# Altium schematic symbol library Comparator.SchLib: 55 symbols
Pins are listed as number, name and electrical type; pins without a type are passive.

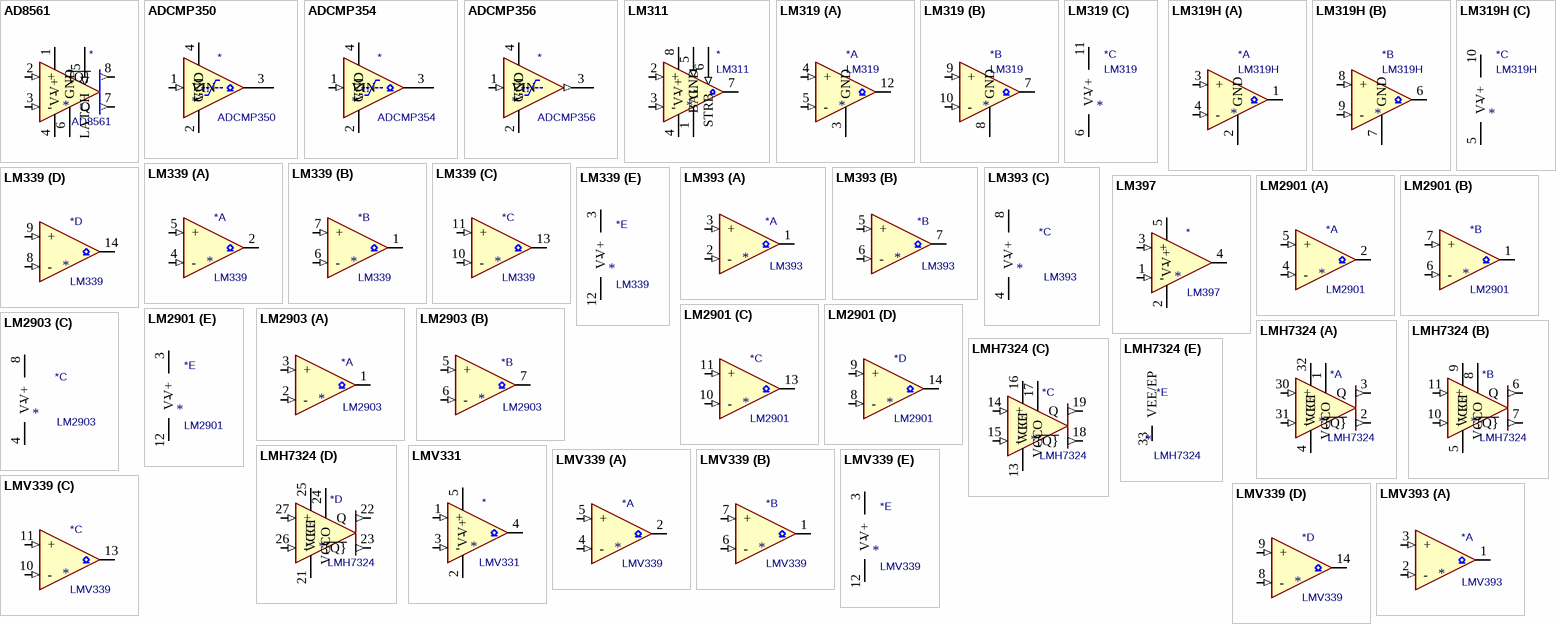
[diagram p0: symbols AD8561 to LMV393]

## AD8561
designator *  value AD8561
ki_keywords: cmp complementary push-pull; ki_description: Ultrafast 7 ns Single Supply Comparator, DIP-8/SOIC-8/TSSOP-8; ki_fp_filters: SOIC*3.9x4.9mm*P1.27mm* TSSOP*4.4x3mm*P0.65mm* DIP*W7.62mm*; Supplier: https://www.analog.com/media/en/technical-documentation/data-sheets/ad8561.pdf
pins: 1 V+ (power), 2 + (in), 3 - (in), 4 V- (power), 5 LATCH (in), 6 GND (power), 7 Q (out), 8 ~{{Q}} (out)

## ADCMP350
designator *  value ADCMP350
ki_keywords: cmp collector; ki_description: Single-input comparator, internal 0.6V reference, Active-Low Open-Drain output, KS-4; ki_fp_filters: Analog*KS?4*; Footprint: Package_TO_SOT_SMD:Analog_KS-4; Supplier: https://www.analog.com/media/en/technical-documentation/data-sheets/ADCMP350_354_356.pdf
footprint Analog_KS-4
pins: 1 VIN (in), 2 GND (power), 3 (oc), 4 VCC (power)

## ADCMP354
designator *  value ADCMP354
ki_keywords: cmp collector; ki_description: Single-input comparator, internal 0.6V reference, Active-High Open-Drain output, KS-4; ki_fp_filters: Analog*KS?4*; Footprint: Package_TO_SOT_SMD:Analog_KS-4; Supplier: https://www.analog.com/media/en/technical-documentation/data-sheets/ADCMP350_354_356.pdf
footprint Analog_KS-4
pins: 1 VIN (in), 2 GND (power), 3 (oc), 4 VCC (power)

## ADCMP356
designator *  value ADCMP356
ki_keywords: cmp; ki_description: Single-input comparator, internal 0.6V reference, Active-High Push-Pull output, KS-4; ki_fp_filters: Analog*KS?4*; Footprint: Package_TO_SOT_SMD:Analog_KS-4; Supplier: https://www.analog.com/media/en/technical-documentation/data-sheets/ADCMP350_354_356.pdf
footprint Analog_KS-4
pins: 1 VIN (in), 2 GND (power), 3 (out), 4 VCC (power)

## LM311
designator *  value LM311
ki_keywords: cmp open collector; ki_description: Voltage Comparator, DIP-8/SOIC-8; ki_fp_filters: SOIC*3.9x4.9mm*P1.27mm* DIP*W7.62mm*; Supplier: https://www.st.com/resource/en/datasheet/lm311.pdf
pins: 1 GND, 2 + (in), 3 - (in), 4 V- (power), 5 BAL (in), 6 STRB (in), 7 (oc), 8 V+ (power)

## LM319
designator *  value LM319
ki_keywords: cmp open collector; ki_description: High Speed Dual Comparator, DIP-14/SOIC-14; ki_fp_filters: SOIC*3.9x8.7mm*P1.27mm* DIP*W7.62mm*; Supplier: http://www.ti.com/lit/ds/symlink/lm319-n.pdf
part A pins: 1 NC (in) hidden, 2 NC (in) hidden, 3 GND, 4 + (in), 5 - (in), 12 (oc)
part B pins: 7 (oc), 8 GND, 9 + (in), 10 - (in), 13 NC (in) hidden, 14 NC (in) hidden
part C pins: 6 V- (power), 11 V+ (power)

## LM319H
designator *  value LM319H
ki_keywords: cmp open collector; ki_description: High Speed Dual Comparator, TO-100-10; ki_fp_filters: TO?100*; Footprint: Package_TO_SOT_THT:TO-100-10; Supplier: http://www.ti.com/lit/ds/symlink/lm319-n.pdf
footprint TO-100-10
part A pins: 1 (oc), 2 GND, 3 + (in), 4 - (in)
part B pins: 6 (oc), 7 GND, 8 + (in), 9 - (in)
part C pins: 5 V- (power), 10 V+ (power)

## LM339
designator *  value LM339
ki_keywords: cmp open collector; ki_description: Quad Differential Comparators, SOIC-14/TSSOP-14; ki_fp_filters: SOIC*3.9x8.7mm*P1.27mm* TSSOP*4.4x5mm*P0.65mm*; Supplier: https://www.st.com/resource/en/datasheet/lm139.pdf
part A pins: 2 (oc), 4 - (in), 5 + (in)
part B pins: 1 (oc), 6 - (in), 7 + (in)
part C pins: 10 - (in), 11 + (in), 13 (oc)
part D pins: 8 - (in), 9 + (in), 14 (oc)
part E pins: 3 V+ (power), 12 V- (power)

## LM393
designator *  value LM393
ki_keywords: cmp open collector; ki_description: Low-Power, Low-Offset Voltage, Dual Comparators, DIP-8/SOIC-8/TO-99-8; ki_fp_filters: SOIC*3.9x4.9mm*P1.27mm* DIP*W7.62mm* SOP*5.28x5.23mm*P1.27mm* VSSOP*3.0x3.0mm*P0.65mm* TSSOP*4.4x3mm*P0.65mm*; Supplier: http://www.ti.com/lit/ds/symlink/lm393.pdf
part A pins: 1 (oc), 2 - (in), 3 + (in)
part B pins: 5 + (in), 6 - (in), 7 (oc)
part C pins: 4 V- (power), 8 V+ (power)

## LM397
designator *  value LM397
ki_keywords: single comparator; ki_description: Single General-Purpose Voltage Comparator with Open-Collector Output, SOT-23-5; ki_fp_filters: SOT?23*; Footprint: Package_TO_SOT_SMD:SOT-23-5; Supplier: http://www.ti.com/lit/ds/symlink/lm397.pdf
footprint SOT-23-5
pins: 1 - (in), 2 V- (power), 3 + (in), 4 (oc), 5 V+ (power)

## LM2901
designator *  value LM2901
ki_keywords: cmp open collector; ki_description: Quad Differential Comparators, DIP-14/SOIC-14/TSSOP-14; ki_fp_filters: SOIC*3.9x8.7mm*P1.27mm* DIP*W7.62mm* TSSOP*4.4x5mm*P0.65mm*; Supplier: https://www.st.com/resource/en/datasheet/lm2901.pdf
part A pins: 2 (oc), 4 - (in), 5 + (in)
part B pins: 1 (oc), 6 - (in), 7 + (in)
part C pins: 10 - (in), 11 + (in), 13 (oc)
part D pins: 8 - (in), 9 + (in), 14 (oc)
part E pins: 3 V+ (power), 12 V- (power)

## LM2903
designator *  value LM2903
ki_keywords: cmp open collector; ki_description: Low-Power, Low-Offset Voltage, Dual Comparators, DIP-8/SOIC-8/SOP-8/TSSOP-8/VSSOP-8; ki_fp_filters: SOIC*3.9x4.9mm*P1.27mm* DIP*W7.62mm* SOP*5.28x5.23mm*P1.27mm* VSSOP*3.0x3.0mm*P0.65mm* TSSOP*4.4x3mm*P0.65mm*; Supplier: http://www.ti.com/lit/ds/symlink/lm393.pdf
part A pins: 1 (oc), 2 - (in), 3 + (in)
part B pins: 5 + (in), 6 - (in), 7 (oc)
part C pins: 4 V- (power), 8 V+ (power)

## LMH7324
designator *  value LMH7324
ki_keywords: cmp push-pull complementary; ki_description: Quad 700 ps High Speed Comparator with RSPECL Outputs, WQFN-32; ki_fp_filters: WQFN*1EP*5x5mm*P0.5mm*; Footprint: Package_DFN_QFN:WQFN-32-1EP_5x5mm_P0.5mm_EP3.1x3.1mm; Supplier: http://www.ti.com/lit/ds/symlink/lmh7324.pdf
footprint WQFN-32-1EP_5x5mm_P0.5mm_EP3.1x3.1mm
part A pins: 1 VCCO (power), 2 ~{{Q}} (out), 3 Q (out), 4 VEE (power), 29 VEE hidden, 30 + (in), 31 - (in), 32 VCCI (power)
part B pins: 5 VEE (power), 6 Q (out), 7 ~{{Q}} (out), 8 VCCO (power), 9 VCCI (power), 10 - (in), 11 + (in), 12 VEE hidden
part C pins: 13 VEE (power), 14 + (in), 15 - (in), 16 VCCI (power), 17 VCCO (power), 18 ~{{Q}} (out), 19 Q (out), 20 VEE hidden
part D pins: 21 VEE (power), 22 Q (out), 23 ~{{Q}} (out), 24 VCCO (power), 25 VCCI (power), 26 - (in), 27 + (in), 28 VEE hidden
part E pins: 33 VEE/EP (power)

## LMV331
designator *  value LMV331
ki_keywords: single comparator; ki_description: Single General-Purpose Low-Voltage Comparator, SOT-23-5/SC-70-5; ki_fp_filters: SOT?23* *SC?70*; Supplier: http://www.ti.com/lit/ds/symlink/lmv331.pdf
pins: 1 + (in), 2 V- (power), 3 - (in), 4 (oc), 5 V+ (power)

## LMV339
designator *  value LMV339
ki_keywords: cmp open collector; ki_description: Quad General-Purpose Low-Voltage Comparator, SOIC-14/TSSOP-14; ki_fp_filters: SOIC*3.9x8.7mm*P1.27mm* TSSOP*4.4x5mm*P0.65mm*; Supplier: https://www.st.com/resource/en/datasheet/lmv331.pdf
part A pins: 2 (oc), 4 - (in), 5 + (in)
part B pins: 1 (oc), 6 - (in), 7 + (in)
part C pins: 10 - (in), 11 + (in), 13 (oc)
part D pins: 8 - (in), 9 + (in), 14 (oc)
part E pins: 3 V+ (power), 12 V- (power)

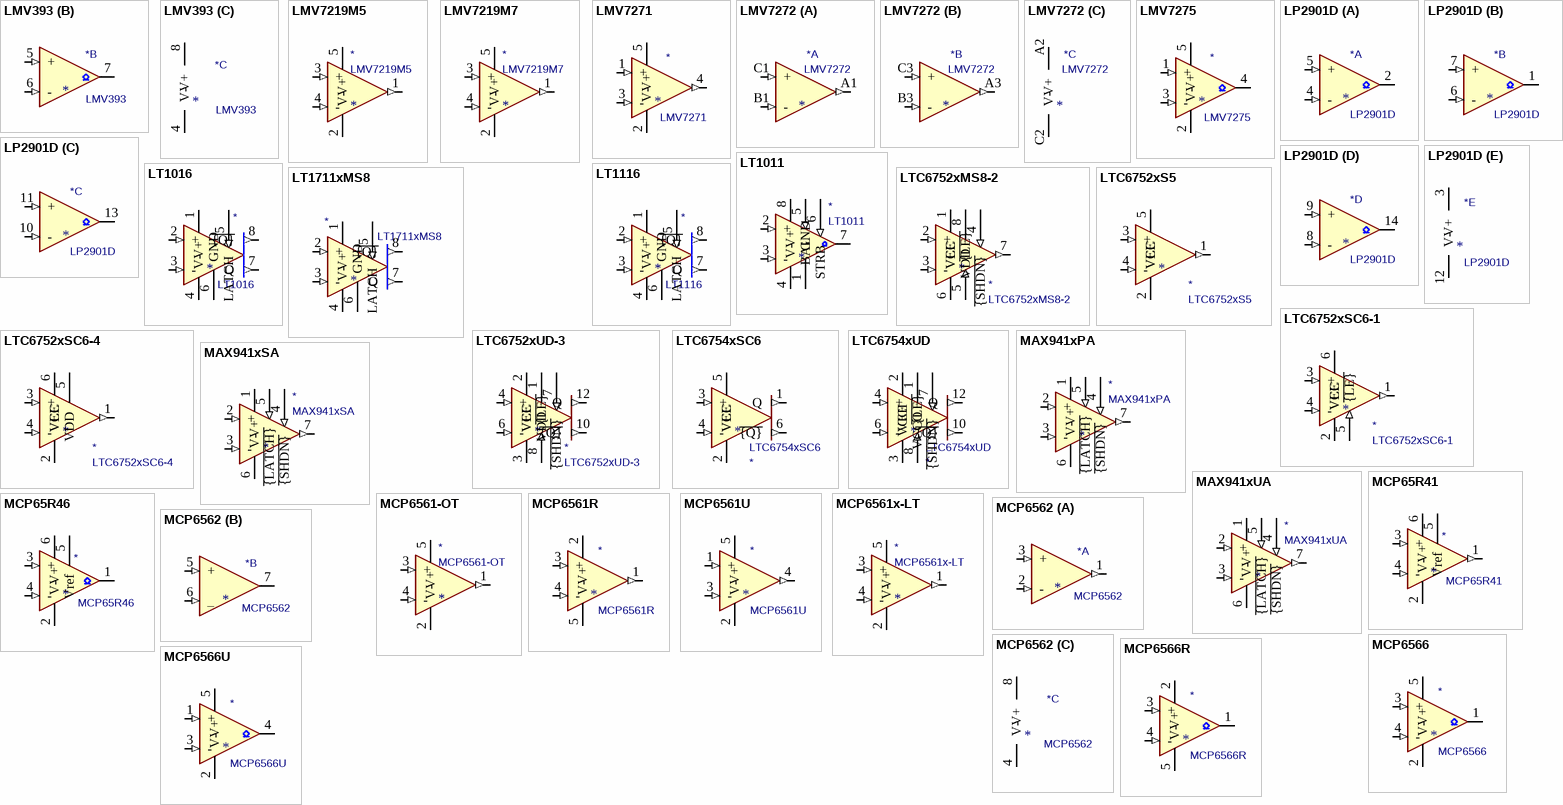
[diagram p1: symbols LMV393 to MCP6566U]

## LMV393
designator *  value LMV393
ki_keywords: cmp open collector; ki_description: Dual General-Purpose Low-Voltage Comparator, SOIC-8/TSSOP-8/VSSOP-8; ki_fp_filters: SOIC*3.9x4.9mm*P1.27mm* TSSOP*4.4x3mm*P0.65mm* VSSOP*3.0x3.0mm*P0.65mm* VSSOP*2.3x2mm*P0.5mm*; Supplier: http://www.ti.com/lit/ds/symlink/lmv331.pdf
part A pins: 1 (oc), 2 - (in), 3 + (in)
part B pins: 5 + (in), 6 - (in), 7 (oc)
part C pins: 4 V- (power), 8 V+ (power)

## LMV7219M5
designator *  value LMV7219M5
ki_keywords: cmp; ki_description: Single Low-Power High-Speed Push-Pull Output Comparator, SOT-23-5; ki_fp_filters: SOT?23*; Footprint: Package_TO_SOT_SMD:SOT-23-5; Supplier: https://www.ti.com/lit/ds/symlink/lmv7219.pdf
footprint SOT-23-5
pins: 1 (out), 2 V- (power), 3 + (in), 4 - (in), 5 V+ (power)

## LMV7219M7
designator *  value LMV7219M7
ki_keywords: cmp; ki_description: Single Low-Power High-Speed Push-Pull Output Comparator, SC-70-5; ki_fp_filters: SOT?353*; Footprint: Package_TO_SOT_SMD:SOT-353_SC-70-5; Supplier: https://www.ti.com/lit/ds/symlink/lmv7219.pdf
footprint SOT-353_SC-70-5
pins: 1 (out), 2 V- (power), 3 + (in), 4 - (in), 5 V+ (power)

## LMV7271
designator *  value LMV7271
ki_keywords: cmp; ki_description: Single, 1.8V Low Power, Rail-to-Rail Input, Push-Pull Output Comparator, SOT-23-5/SC-70-5; ki_fp_filters: SOT?23* *SC?70*; Supplier: http://www.ti.com/lit/ds/symlink/lmv7271.pdf
pins: 1 + (in), 2 V- (power), 3 - (in), 4 (out), 5 V+ (power)

## LMV7272
designator *  value LMV7272
ki_keywords: cmp; ki_description: Dual, 1.8V Low Power, Rail-to-Rail Input, Push-Pull Output Comparator, DSBGA-8; ki_fp_filters: Texas*DSBGA*1.5195x1.5195*Layout3x3*P0.5mm*; Footprint: Package_BGA:Texas_DSBGA-8_1.5195x1.5195mm_Layout3x3_P0.5mm; Supplier: http://www.ti.com/lit/ds/symlink/lmv7272.pdf
footprint Texas_DSBGA-8_1.5195x1.5195mm_Layout3x3_P0.5mm
part A pins: A1 (out), B1 - (in), C1 + (in)
part B pins: A3 (out), B3 - (in), C3 + (in)
part C pins: A2 V+ (power), C2 V- (power)

## LMV7275
designator *  value LMV7275
ki_keywords: cmp; ki_description: Single, 1.8V Low Power, Rail-to-Rail Input, Open Collector Output Comparator, SOT-23-5/SC-70-5; ki_fp_filters: SOT?23* *SC?70*; Supplier: http://www.ti.com/lit/ds/symlink/lmv7275.pdf
pins: 1 + (in), 2 V- (power), 3 - (in), 4 (oc), 5 V+ (power)

## LP2901D
designator *  value LP2901D
ki_keywords: cmp open collector; ki_description: Quad Differential Comparators, SOIC-14; ki_fp_filters: SOIC*3.9x8.7mm*P1.27mm*; Footprint: Package_SO:SOIC-14_3.9x8.7mm_P1.27mm; Supplier: https://www.ti.com/lit/ds/symlink/lp2901.pdf
footprint SOIC-14_3.9x8.7mm_P1.27mm
part A pins: 2 (oc), 4 - (in), 5 + (in)
part B pins: 1 (oc), 6 - (in), 7 + (in)
part C pins: 10 - (in), 11 + (in), 13 (oc)
part D pins: 8 - (in), 9 + (in), 14 (oc)
part E pins: 3 V+ (power), 12 V- (power)

## LT1011
designator *  value LT1011
ki_keywords: cmp open collector; ki_description: Voltage Comparator, DIP-8/SOIC-8; ki_fp_filters: SOIC*3.9x4.9mm*P1.27mm* DIP*W7.62mm*; Supplier: https://www.analog.com/media/en/technical-documentation/data-sheets/lt1011.pdf
pins: 1 GND, 2 + (in), 3 - (in), 4 V- (power), 5 BAL (in), 6 STRB (in), 7 (oc), 8 V+ (power)

## LT1016
designator *  value LT1016
ki_keywords: cmp push-pull complementary latch; ki_description: Single UltraFast Precision 10ns Comparator, DIP-8/SOIC-8; ki_fp_filters: SOIC*3.9x4.9mm*P1.27mm* DIP*W7.62mm*; Supplier: https://www.analog.com/media/en/technical-documentation/data-sheets/lt1016.pdf
pins: 1 V+ (power), 2 + (in), 3 - (in), 4 V- (power), 5 LATCH (in), 6 GND (power), 7 Q (out), 8 ~{{Q}} (out)

## LT1116
designator *  value LT1116
ki_keywords: cmp push-pull complementary latch; ki_description: Single 12ns, Single Supply Ground-Sensing Comparator, DIP-8/SOIC-8; ki_fp_filters: SOIC*3.9x4.9mm*P1.27mm* DIP*W7.62mm*; Supplier: https://www.analog.com/media/en/technical-documentation/data-sheets/1116fc.pdf
pins: 1 V+ (power), 2 + (in), 3 - (in), 4 V- (power), 5 LATCH (in), 6 GND (power), 7 Q (out), 8 ~{{Q}} (out)

## LT1711xMS8
designator *  value LT1711xMS8
ki_keywords: cmp latch push-pull complementary; ki_description: Single ultrafast 4.5 ns rail-to-rail comparator, MSOP-8; ki_fp_filters: MSOP*3x3mm*P0.65mm*; Footprint: Package_SO:MSOP-8_3x3mm_P0.65mm; Supplier: https://www.analog.com/media/en/technical-documentation/data-sheets/171112f.pdf
footprint MSOP-8_3x3mm_P0.65mm
pins: 1 V+ (power), 2 + (in), 3 - (in), 4 V- (power), 5 LATCH (in), 6 GND (power), 7 Q (out), 8 ~{{Q}} (out)

## LTC6752xMS8-2
designator *  value LTC6752xMS8-2
ki_keywords: single comparator high speed cmos; ki_description: Single 280Mhz 2.9ns Comparator, Rail-to-Rail Inputs, CMOS Output, MSOP-8; ki_fp_filters: MSOP*3x3mm*P0.65mm*; Footprint: Package_SO:MSOP-8_3x3mm_P0.65mm; Supplier: https://www.analog.com/media/en/technical-documentation/data-sheets/6752fc.pdf
footprint MSOP-8_3x3mm_P0.65mm
pins: 1 VCC (power), 2 + (in), 3 - (in), 4 ~{{SHDN}} (in), 5 ~{{LE}} (in), 6 VEE (power), 7 (out), 8 VDD (power)

## LTC6752xS5
designator *  value LTC6752xS5
ki_keywords: single comparator high speed cmos; ki_description: Single 280Mhz 2.9ns Comparator, Rail-to-Rail Inputs, CMOS Output, TSOT-23-5; ki_fp_filters: TSOT?23?5*; Footprint: Package_TO_SOT_SMD:TSOT-23-5; Supplier: https://www.analog.com/media/en/technical-documentation/data-sheets/6752fc.pdf
footprint TSOT-23-5
pins: 1 (out), 2 VEE (power), 3 + (in), 4 - (in), 5 VCC (power)

## LTC6752xSC6-1
designator *  value LTC6752xSC6-1
ki_keywords: single comparator high speed cmos; ki_description: Single 280Mhz 2.9ns Comparator, Rail-to-Rail Inputs, CMOS Output, SC-70; ki_fp_filters: SOT?363*; Footprint: Package_TO_SOT_SMD:SOT-363_SC-70-6; Supplier: https://www.analog.com/media/en/technical-documentation/data-sheets/6752fc.pdf
footprint SOT-363_SC-70-6
pins: 1 (out), 2 VEE (power), 3 + (in), 4 - (in), 5 ~{{LE}} (in), 6 VCC (power)

## LTC6752xSC6-4
designator *  value LTC6752xSC6-4
ki_keywords: single comparator high speed cmos; ki_description: Single 280Mhz 2.9ns Comparator, Rail-to-Rail Inputs, CMOS Output, SC-70; ki_fp_filters: SOT?363*; Footprint: Package_TO_SOT_SMD:SOT-363_SC-70-6; Supplier: https://www.analog.com/media/en/technical-documentation/data-sheets/6752fc.pdf
footprint SOT-363_SC-70-6
pins: 1 (out), 2 VEE (power), 3 + (in), 4 - (in), 5 VDD (power), 6 VCC (power)

## LTC6752xUD-3
designator *  value LTC6752xUD-3
ki_keywords: single comparator high speed cmos; ki_description: Single 280Mhz 2.9ns Comparator, Rail-to-Rail Inputs, CMOS Output, QFN-12; ki_fp_filters: QFN*1EP*3x3mm*P0.5mm*; Footprint: Package_DFN_QFN:QFN-12-1EP_3x3mm_P0.5mm_EP1.65x1.65mm; Supplier: https://www.analog.com/media/en/technical-documentation/data-sheets/6752fc.pdf
footprint QFN-12-1EP_3x3mm_P0.5mm_EP1.65x1.65mm
pins: 1 VDD (power), 2 VCC (power), 3 VEE (power), 4 + (in), 5 NC (in) hidden, 6 - (in), 7 ~{{SHDN}} (in), 8 ~{{LE}} (in), 9 VEE hidden, 10 ~{{Q}} (out), 11 NC (in) hidden, 12 Q (out), 13 VEE hidden

## LTC6754xSC6
designator *  value LTC6754xSC6
ki_keywords: cmp r2r rtr push-pull complementary; ki_description: Single High Speed Rail-to-Rail Input Comparator with LVDS Compatible Outputs, SC-70-6; ki_fp_filters: *SC?70*; Footprint: Package_TO_SOT_SMD:SOT-363_SC-70-6; Supplier: https://www.analog.com/media/en/technical-documentation/data-sheets/6754f.pdf
footprint SOT-363_SC-70-6
pins: 1 Q (out), 2 VEE (power), 3 + (in), 4 - (in), 5 VCC (power), 6 ~{{Q}} (out)

## LTC6754xUD
designator *  value LTC6754xUD
ki_keywords: cmp r2r rtr push-pull complementary; ki_description: Single High Speed Rail-to-Rail Input Comparator with LVDS Compatible Outputs, QFN-12; ki_fp_filters: QFN*1EP*3x3mm*P0.5mm*; Footprint: Package_DFN_QFN:QFN-12-1EP_3x3mm_P0.5mm_EP1.65x1.65mm; Supplier: https://www.analog.com/media/en/technical-documentation/data-sheets/6754f.pdf
footprint QFN-12-1EP_3x3mm_P0.5mm_EP1.65x1.65mm
pins: 1 VCCO (power), 2 VCCI (power), 3 VEE (power), 4 + (in), 5 NC (in) hidden, 6 - (in), 7 ~{{SHDN}} (in), 8 ~{{LE}} (in), 9 VEE hidden, 10 ~{{Q}} (out), 11 NC (in) hidden, 12 Q (out), 13 VEE hidden

## MAX941xPA
designator *  value MAX941xPA
ki_keywords: single comparator; ki_description: High-Speed, Low-Power, 3V/5V, Rail-to-Rail, Single-Supply Comparator, PDIP-8; ki_fp_filters: DIP*W7.62mm*; Footprint: Package_DIP:DIP-8_W7.62mm; Supplier: https://datasheets.maximintegrated.com/en/ds/MAX941-MAX944.pdf
footprint DIP-8_W7.62mm
pins: 1 V+ (power), 2 + (in), 3 - (in), 4 ~{{SHDN}} (in), 5 ~{{LATCH}} (in), 6 V- (power), 7 (out), 8 NC (in) hidden

## MAX941xSA
designator *  value MAX941xSA
ki_keywords: single comparator; ki_description: High-Speed, Low-Power, 3V/5V, Rail-to-Rail, Single-Supply Comparator, SOIC-8; ki_fp_filters: SOIC*3.9x4.9mm*P1.27mm*; Footprint: Package_SO:SOIC-8_3.9x4.9mm_P1.27mm; Supplier: https://datasheets.maximintegrated.com/en/ds/MAX941-MAX944.pdf
footprint SOIC-8_3.9x4.9mm_P1.27mm
pins: 1 V+ (power), 2 + (in), 3 - (in), 4 ~{{SHDN}} (in), 5 ~{{LATCH}} (in), 6 V- (power), 7 (out), 8 NC (in) hidden

## MAX941xUA
designator *  value MAX941xUA
ki_keywords: single comparator; ki_description: High-Speed, Low-Power, 3V/5V, Rail-to-Rail, Single-Supply Comparator, MSOP-8; ki_fp_filters: MSOP*3x3mm*P0.65mm*; Footprint: Package_SO:MSOP-8_3x3mm_P0.65mm; Supplier: https://datasheets.maximintegrated.com/en/ds/MAX941-MAX944.pdf
footprint MSOP-8_3x3mm_P0.65mm
pins: 1 V+ (power), 2 + (in), 3 - (in), 4 ~{{SHDN}} (in), 5 ~{{LATCH}} (in), 6 V- (power), 7 (out), 8 NC (in) hidden

## MCP65R41
designator *  value MCP65R41
ki_keywords: cmp reference; ki_description: 3 μA Comparator with Integrated Reference Voltage, SOT-23-6; ki_fp_filters: SOT?23*; Footprint: Package_TO_SOT_SMD:SOT-23-6; Supplier: http://ww1.microchip.com/downloads/en/DeviceDoc/22269B.pdf
footprint SOT-23-6
pins: 1 (out), 2 V- (power), 3 + (in), 4 - (in), 5 Vref (power), 6 V+ (power)

## MCP65R46
designator *  value MCP65R46
ki_keywords: cmp reference open collector drain; ki_description: 3 μA Comparator with Integrated Reference Voltage, SOT-23-6; ki_fp_filters: SOT?23*; Footprint: Package_TO_SOT_SMD:SOT-23-6; Supplier: http://ww1.microchip.com/downloads/en/DeviceDoc/22269B.pdf
footprint SOT-23-6
pins: 1 (oc), 2 V- (power), 3 + (in), 4 - (in), 5 Vref (power), 6 V+ (power)

## MCP6561-OT
designator *  value MCP6561-OT
ki_keywords: cmp; ki_description: Single 1.8V Low-Power Push-Pull Output Comparator, SOT-23-5; ki_fp_filters: SOT?23*; Footprint: Package_TO_SOT_SMD:SOT-23-5; Supplier: http://ww1.microchip.com/downloads/en/DeviceDoc/MCP6561-1R-1U-2-4-1.8V-Low-Power-Push-Pull-Output-Comparator-DS20002139E.pdf
footprint SOT-23-5
pins: 1 (out), 2 V- (power), 3 + (in), 4 - (in), 5 V+ (power)

## MCP6561R
designator *  value MCP6561R
ki_keywords: cmp; ki_description: Single 1.8V Low-Power Push-Pull Output Comparator, SOT-23-5; ki_fp_filters: SOT?23*; Footprint: Package_TO_SOT_SMD:SOT-23-5; Supplier: http://ww1.microchip.com/downloads/en/DeviceDoc/MCP6561-1R-1U-2-4-1.8V-Low-Power-Push-Pull-Output-Comparator-DS20002139E.pdf
footprint SOT-23-5
pins: 1 (out), 2 V+ (power), 3 + (in), 4 - (in), 5 V- (power)

## MCP6561U
designator *  value MCP6561U
ki_keywords: cmp; ki_description: Single 1.8V Low-Power Push-Pull Output Comparator, SOT-23-5; ki_fp_filters: SOT?23*; Footprint: Package_TO_SOT_SMD:SOT-23-5; Supplier: http://ww1.microchip.com/downloads/en/DeviceDoc/MCP6561-1R-1U-2-4-1.8V-Low-Power-Push-Pull-Output-Comparator-DS20002139E.pdf
footprint SOT-23-5
pins: 1 + (in), 2 V- (power), 3 - (in), 4 (out), 5 V+ (power)

## MCP6561x-LT
designator *  value MCP6561x-LT
ki_keywords: cmp; ki_description: Single 1.8V Low-Power Push-Pull Output Comparator, SC-70-5; ki_fp_filters: SOT?353*; Footprint: Package_TO_SOT_SMD:SOT-353_SC-70-5; Supplier: http://ww1.microchip.com/downloads/en/DeviceDoc/MCP6561-1R-1U-2-4-1.8V-Low-Power-Push-Pull-Output-Comparator-DS20002139E.pdf
footprint SOT-353_SC-70-5
pins: 1 (out), 2 V- (power), 3 + (in), 4 - (in), 5 V+ (power)

## MCP6562
designator *  value MCP6562
ki_keywords: cmp; ki_description: Dual 1.8V Low-Power Push-Pull Output Comparator, SOIC-8/MSOP-8; ki_fp_filters: SOIC*3.9x4.9mm*P1.27mm* MSOP*3x3mm*P0.65mm*; Supplier: http://ww1.microchip.com/downloads/en/DeviceDoc/MCP6561-1R-1U-2-4-1.8V-Low-Power-Push-Pull-Output-Comparator-DS20002139E.pdf
part A pins: 1 (out), 2 - (in), 3 + (in)
part B pins: 5 + (in), 6 _ (in), 7 (oc)
part C pins: 4 V- (power), 8 V+ (power)

## MCP6566
designator *  value MCP6566
ki_keywords: cmp collector; ki_description: Single 1.8V Low-Power Open-Drain Output Comparator, SOT-23-5/SC-70; ki_fp_filters: SOT?23* *SC*70*; Supplier: http://ww1.microchip.com/downloads/en/DeviceDoc/MCP6566-6R-6U-7-9-1.8V-Low-Power-Open-Drain-Output-Comparator-DS20002143G.pdf
pins: 1 (oc), 2 V- (power), 3 + (in), 4 - (in), 5 V+ (power)

## MCP6566R
designator *  value MCP6566R
ki_keywords: cmp collector; ki_description: Single 1.8V Low-Power Open-Drain Output Comparator, SOT-23-5; ki_fp_filters: SOT?23*; Footprint: Package_TO_SOT_SMD:SOT-23-5; Supplier: http://ww1.microchip.com/downloads/en/DeviceDoc/MCP6566-6R-6U-7-9-1.8V-Low-Power-Open-Drain-Output-Comparator-DS20002143G.pdf
footprint SOT-23-5
pins: 1 (oc), 2 V+ (power), 3 + (in), 4 - (in), 5 V- (power)

## MCP6566U
designator *  value MCP6566U
ki_keywords: cmp collector; ki_description: Single 1.8V Low-Power Open-Drain Output Comparator, SOT-23-5; ki_fp_filters: SOT?23*; Footprint: Package_TO_SOT_SMD:SOT-23-5; Supplier: http://ww1.microchip.com/downloads/en/DeviceDoc/MCP6566-6R-6U-7-9-1.8V-Low-Power-Open-Drain-Output-Comparator-DS20002143G.pdf
footprint SOT-23-5
pins: 1 + (in), 2 V- (power), 3 - (in), 4 (oc), 5 V+ (power)

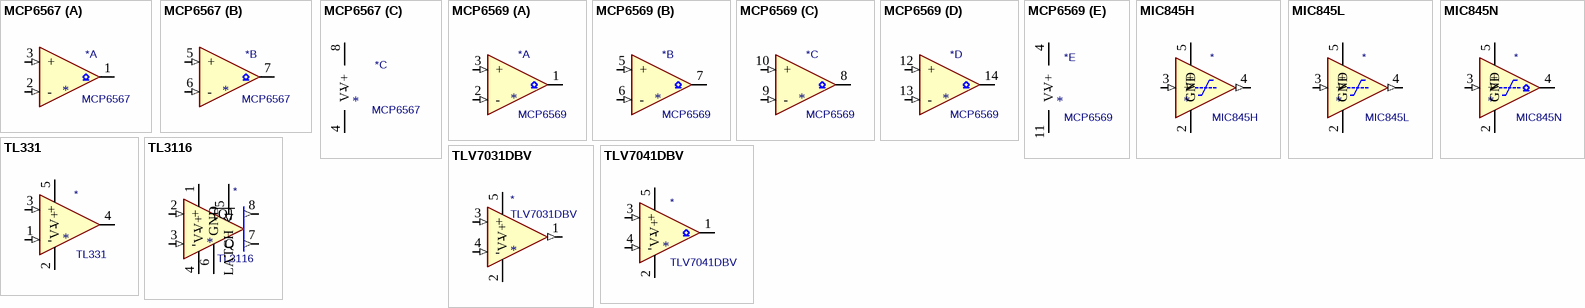
[diagram p2: symbols MCP6567 to TLV7041DBV]

## MCP6567
designator *  value MCP6567
ki_keywords: cmp collector; ki_description: Dual 1.8V Low-Power Open-Drain Output Comparator, SOIC-8/MSOP-8; ki_fp_filters: SOIC*3.9x4.9mm*P1.27mm* MSOP*3x3mm*P0.65mm*; Supplier: http://ww1.microchip.com/downloads/en/DeviceDoc/MCP6566-6R-6U-7-9-1.8V-Low-Power-Open-Drain-Output-Comparator-DS20002143G.pdf
part A pins: 1 (oc), 2 - (in), 3 + (in)
part B pins: 5 + (in), 6 - (in), 7 (oc)
part C pins: 4 V- (power), 8 V+ (power)

## MCP6569
designator *  value MCP6569
ki_keywords: cmp collector; ki_description: Quad 1.8V Low-Power Open-Drain Output Comparator, SOIC-14/TSSOP-14; ki_fp_filters: SOIC*3.9x8.7mm*P1.27mm* TSSOP*4.4x5mm*P0.65mm*; Supplier: http://ww1.microchip.com/downloads/en/DeviceDoc/MCP6566-6R-6U-7-9-1.8V-Low-Power-Open-Drain-Output-Comparator-DS20002143G.pdf
part A pins: 1 (oc), 2 - (in), 3 + (in)
part B pins: 5 + (in), 6 - (in), 7 (oc)
part C pins: 8 (oc), 9 - (in), 10 + (in)
part D pins: 12 + (in), 13 - (in), 14 (oc)
part E pins: 4 V+ (power), 11 V- (power)

## MIC845H
designator *  value MIC845H
ki_keywords: single cmp; ki_description: Micro-Power Comparator / Battery Monitor, Active-High Push-Pull Output, SC-70-5; ki_fp_filters: *SC?70*; Footprint: Package_TO_SOT_SMD:SOT-353_SC-70-5; Supplier: http://ww1.microchip.com/downloads/en/DeviceDoc/mic845.pdf
footprint SOT-353_SC-70-5
pins: 1 NIC (in) hidden, 2 GND (power), 3 + (in), 4 (out), 5 V+ (power)

## MIC845L
designator *  value MIC845L
ki_keywords: single cmp; ki_description: Micro-Power Comparator / Battery Monitor, Active-Low Push-Pull Output, SC-70-5; ki_fp_filters: *SC?70*; Footprint: Package_TO_SOT_SMD:SOT-353_SC-70-5; Supplier: http://ww1.microchip.com/downloads/en/DeviceDoc/mic845.pdf
footprint SOT-353_SC-70-5
pins: 1 NIC (in) hidden, 2 GND (power), 3 + (in), 4 (out), 5 V+ (power)

## MIC845N
designator *  value MIC845N
ki_keywords: single cmp collector; ki_description: Micro-Power Comparator / Battery Monitor, Active-High Open-Drain Output, SC-70-5; ki_fp_filters: *SC?70*; Footprint: Package_TO_SOT_SMD:SOT-353_SC-70-5; Supplier: http://ww1.microchip.com/downloads/en/DeviceDoc/mic845.pdf
footprint SOT-353_SC-70-5
pins: 1 NIC (in) hidden, 2 GND (power), 3 + (in), 4 (oc), 5 V+ (power)

## TL331
designator *  value TL331
ki_keywords: single comparator; ki_description: Single Differential Comparator with Open-Collector Output, SOT-23-5; ki_fp_filters: SOT?23*; Footprint: Package_TO_SOT_SMD:SOT-23-5; Supplier: http://www.ti.com/lit/ds/symlink/tl331.pdf
footprint SOT-23-5
pins: 1 - (in), 2 V- (power), 3 + (in), 4 (oc), 5 V+ (power)

## TL3116
designator *  value TL3116
ki_keywords: cmp push-pull complementary; ki_description: Single Ultra-Fast Low-Power Precision Comparators, SOIC-8/TSSOP-8; ki_fp_filters: SOIC*3.9x4.9mm*P1.27mm* TSSOP*4.4x3mm*P0.65mm*; Supplier: http://www.ti.com/lit/ds/symlink/tl3116.pdf
pins: 1 V+ (power), 2 + (in), 3 - (in), 4 V- (power), 5 LATCH (in), 6 GND (power), 7 Q (out), 8 ~{{Q}} (out)

## TLV7031DBV
designator *  value TLV7031DBV
ki_keywords: cmp; ki_description: Single, 1.6V-6.5V, 315nA Quiescent, Push-Pull Output, Comparator, SOT-23-5/SC-70; ki_fp_filters: SOT?23*; Footprint: Package_TO_SOT_SMD:SOT-23-5; Supplier: https://www.ti.com/lit/ds/symlink/tlv7031.pdf
footprint SOT-23-5
pins: 1 (out), 2 V- (power), 3 + (in), 4 - (in), 5 V+ (power)

## TLV7041DBV
designator *  value TLV7041DBV
ki_keywords: cmp collector; ki_description: Single, 1.6V-6.5V, 315nA Quiescent, Open-Drain Output, Comparator, SOT-23-5/SC-70; ki_fp_filters: SOT?23* *SC*70*; Supplier: https://www.ti.com/lit/ds/symlink/tlv7041.pdf
pins: 1 (oc), 2 V- (power), 3 + (in), 4 - (in), 5 V+ (power)